# Altium footprint library FH34SRJ18S05SH50.PcbLib: 1 footprints
Each footprint in its own frame and in the unit in brackets; x right, y up, seen from the top. Pads: shape width x height; smd on the part's side, far side on the other; paste and mask are expansions set on the pad; w line width, h text height; cw(c..) or ccw(c..) is an arc to the next point about the centre after c.
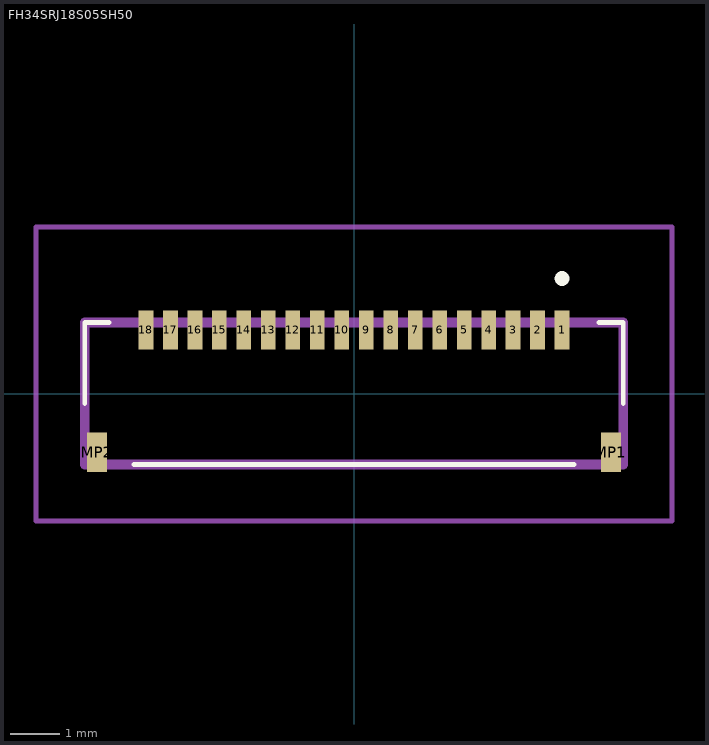
[diagram p0: the footprint, top view; thin cyan lines are the x and y axes]

## FH34SRJ18S05SH50 [mm]
pads (20):
  rect 0.3x0.8 smd: 1(4.25,1.3) 2(3.75,1.3) 3(3.25,1.3) 4(2.75,1.3) 5(2.25,1.3) 6(1.75,1.3) 7(1.25,1.3) 8(0.75,1.3) 9(0.25,1.3) 10(-0.25,1.3) 11(-0.75,1.3) 12(-1.25,1.3) 13(-1.75,1.3) 14(-2.25,1.3) 15(-2.75,1.3) 16(-3.25,1.3) 17(-3.75,1.3) 18(-4.25,1.3)
  rect 0.4x0.8 smd: MP1(5.25,-1.2) MP2(-5.25,-1.2)
Top Overlay:
  lines w0.1: -5.5,-0.2 -5.5,1.45 -5,1.45 ; 5,1.45 5.5,1.45 5.5,-0.2 ; -4.5,-1.45 4.5,-1.45 ; -4.5,-1.45 4.5,-1.45 ; -4.5,-1.45 -4.5,-1.45 ; 4.5,-1.45 4.5,-1.45
  lines w0.2: 4.25,2.3 cw(c4.25,2.35) 4.25,2.4 ; 4.25,2.3 4.25,2.3 ; 4.25,2.3 ccw(c4.25,2.35) 4.25,2.4 ; 4.25,2.3 cw(c4.25,2.35) 4.25,2.4 ; 4.25,2.4 4.25,2.4 ; 4.25,2.4 4.25,2.4
Mechanical 15:
  lines w0.2: -5.5,-1.45 5.5,-1.45 5.5,1.45 -5.5,1.45 -5.5,-1.45
Mechanical 20:
  lines w0.1: -6.5,-2.6 6.5,-2.6 6.5,3.4 -6.5,3.4 -6.5,-2.6